# Altium footprint library BMA253.PcbLib: 1 footprints
Each footprint in its own frame and in the unit in brackets; x right, y up, seen from the top. Pads: shape width x height; smd on the part's side, far side on the other; paste and mask are expansions set on the pad; w line width, h text height; cw(c..) or ccw(c..) is an arc to the next point about the centre after c.
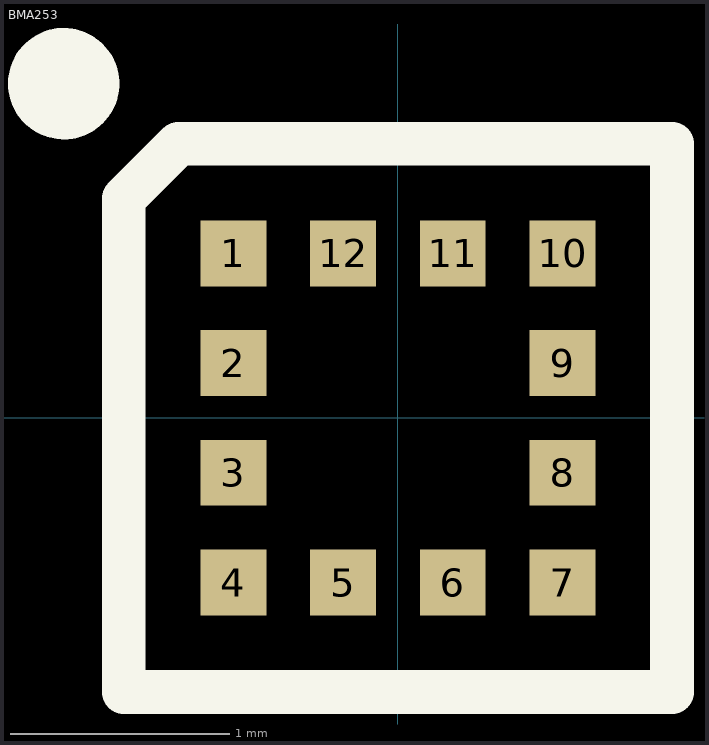
[diagram p0: the footprint, top view; thin cyan lines are the x and y axes]

## BMA253 [mm]
pads (12):
  rect 0.3x0.3 smd mask+0.051: 1(-0.75,0.75) 2(-0.75,0.25) 3(-0.75,-0.25) 4(-0.75,-0.75) 5(-0.25,-0.75) 6(0.25,-0.75) 7(0.75,-0.75) 8(0.75,-0.25) 9(0.75,0.25) 10(0.75,0.75) 11(0.25,0.75) 12(-0.25,0.75)
Top Overlay:
  circle w0.254: c-1.524,1.524 r0.127
  lines w0.2: -1.25,-1.25 -1.25,1 -1,1.25 1.25,1.25 1.25,-1.25 -1.25,-1.25
3D body: height 1, standoff 0, extent -1.028,-1.028 1.029,1.029
3D body: height 1.2, standoff 0.8, extent -0.796,0.398 -0.396,0.798